# EAGLE library part PCM1862 (library observer)
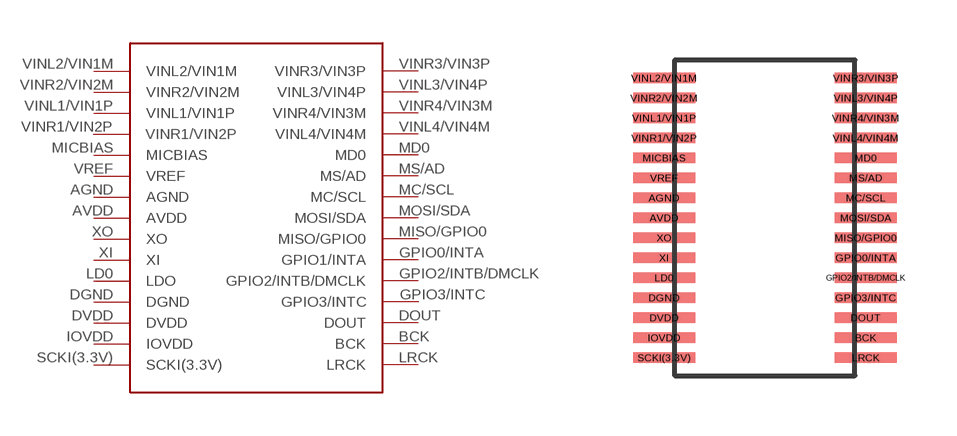
[diagram p1: symbol with the pads of PCM1862; footprint PCM1862]

Designator prefix -

## PCM1862  [PCM1862]
AGND  AGND
AVDD  AVDD
BCK  BCK
DGND  DGND
DOUT  DOUT
DVDD  DVDD
GPIO0/INTA  GPIO1/INTA
GPIO2/INTB/DMCLK  GPIO2/INTB/DMCLK
GPIO3/INTC  GPIO3/INTC
IOVDD  IOVDD
LD0  LDO
LRCK  LRCK
MC/SCL  MC/SCL
MD0  MD0
MICBIAS  MICBIAS
MISO/GPIO0  MISO/GPIO0
MOSI/SDA  MOSI/SDA
MS/AD  MS/AD
SCKI(3.3V)  SCKI(3.3V)
VINL1/VIN1P  VINL1/VIN1P
VINL2/VIN1M  VINL2/VIN1M
VINL3/VIN4P  VINL3/VIN4P
VINL4/VIN4M  VINL4/VIN4M
VINR1/VIN2P  VINR1/VIN2P
VINR2/VIN2M  VINR2/VIN2M
VINR3/VIN3P  VINR3/VIN3P
VINR4/VIN3M  VINR4/VIN3M
VREF  VREF
XI  XI
XO  XO

## Footprint PCM1862 (pad centres in mm)
smd 1.55 x 0.27: AGND -2.52,0.5; AVDD -2.52,0; BCK 2.52,-3; DGND -2.52,-2; DOUT 2.52,-2.5; DVDD -2.52,-2.5; GPIO0/INTA 2.52,-1; GPIO2/INTB/DMCLK 2.52,-1.5; GPIO3/INTC 2.52,-2; IOVDD -2.52,-3; LD0 -2.52,-1.5; LRCK 2.52,-3.5; MC/SCL 2.52,0.5; MD0 2.52,1.5; MICBIAS -2.52,1.5; MISO/GPIO0 2.52,-0.5; MOSI/SDA 2.52,0; MS/AD 2.52,1; SCKI(3.3V) -2.52,-3.5; VINL1/VIN1P -2.52,2.5; VINL2/VIN1M -2.52,3.5; VINL3/VIN4P 2.52,3; VINL4/VIN4M 2.52,2; VINR1/VIN2P -2.52,2; VINR2/VIN2M -2.52,3; VINR3/VIN3P 2.52,3.5; VINR4/VIN3M 2.52,2.5; VREF -2.52,1; XI -2.52,-1; XO -2.52,-0.5